# Altium schematic symbol library ADG701BRTZ.Schlib: 1 symbol
Pins are listed as number, name and electrical type; pins without a type are passive.

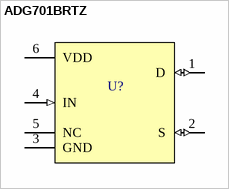
[diagram p0: symbol ADG701BRTZ]

## ADG701BRTZ
designator U?
CMOS Low Voltage / 2 Ω SPST Switch
pins: 1 D (io), 2 S (io), 3 GND (power), 4 IN (in), 5 NC, 6 VDD (power)